# Altium footprint library HGH.PcbLib: 336 footprints (part 9 of 21)
Each footprint in its own frame and in the unit in brackets; x right, y up, seen from the top. Pads: shape width x height; smd on the part's side, far side on the other; paste and mask are expansions set on the pad; w line width, h text height; cw(c..) or ccw(c..) is an arc to the next point about the centre after c.
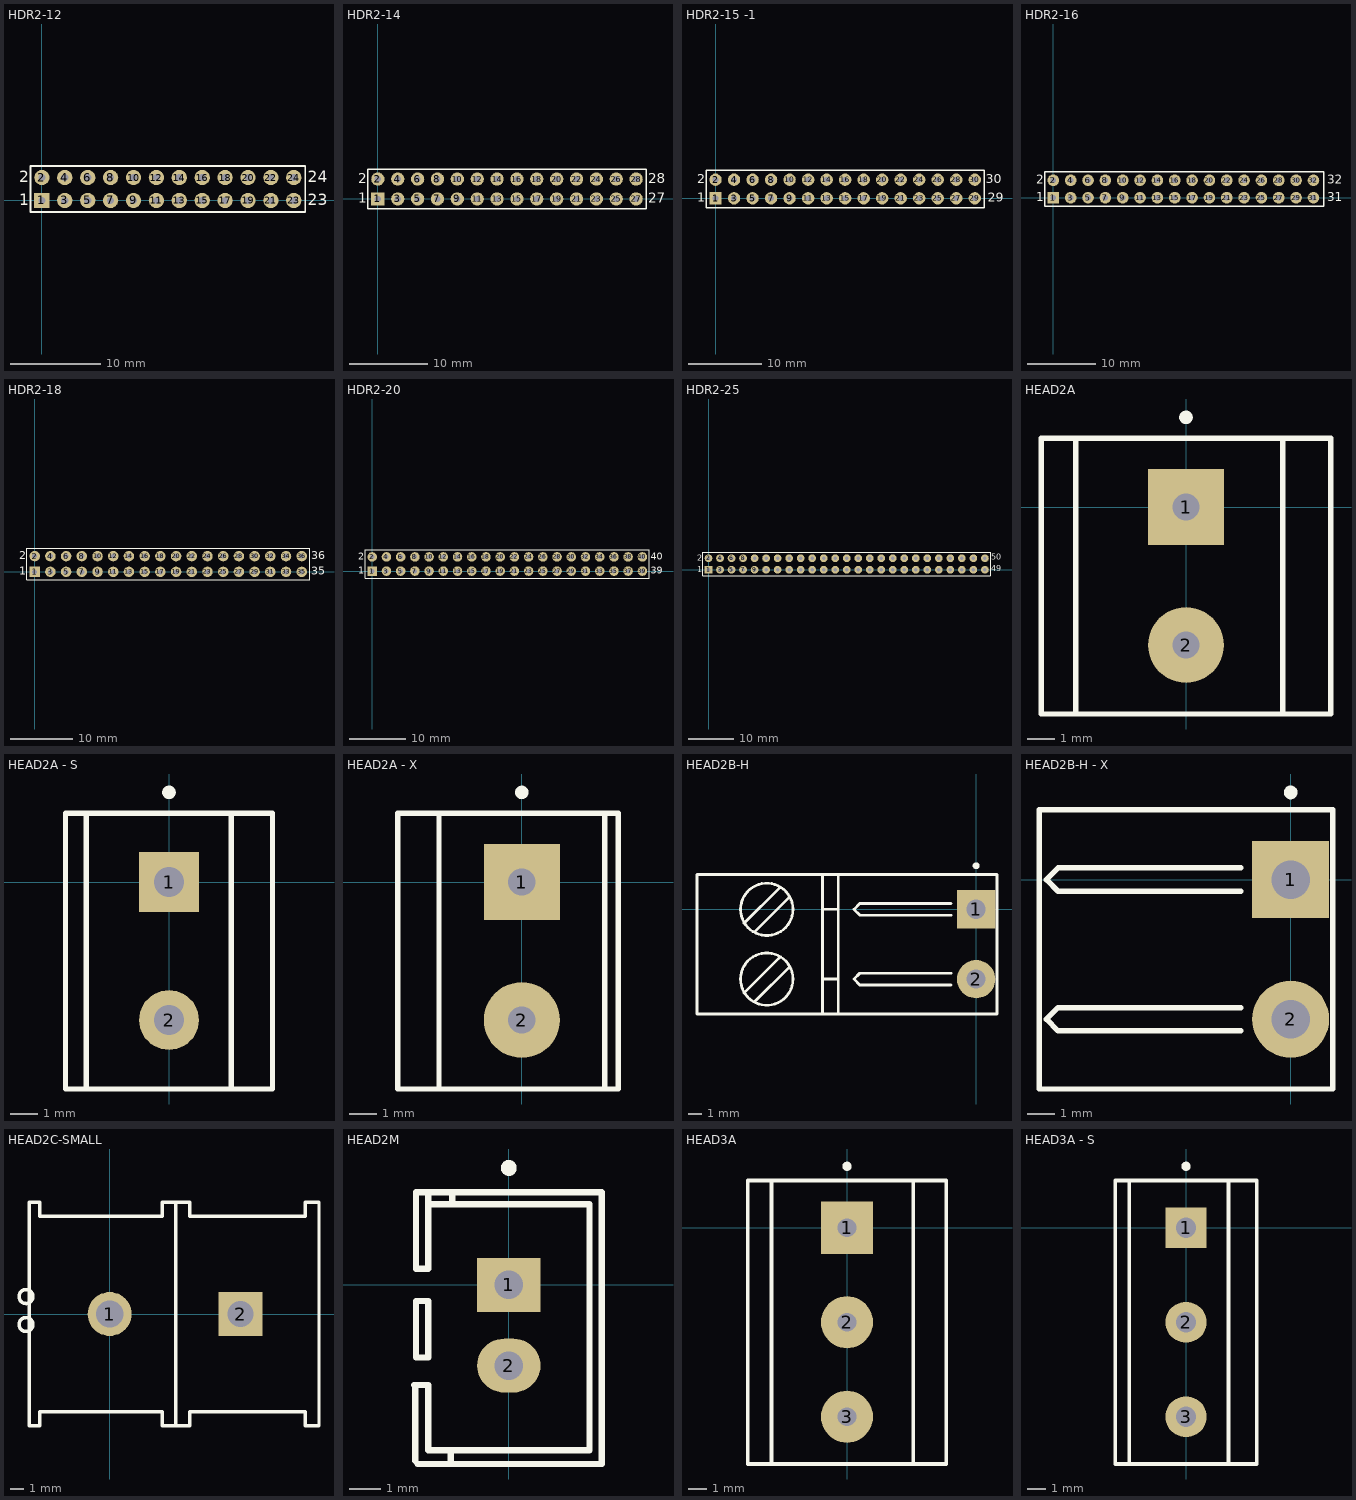
[diagram p8: the footprints below, top view; thin cyan lines are the x and y axes]

## HDR2-12 [mm]
pads (24):
  rect 1.7x1.7 hole 0.8: 1(0,0)
  round 1.7 hole 0.8: 2(0,2.54) 3(2.54,0) 4(2.54,2.54) 5(5.08,0) 6(5.08,2.54) 7(7.62,0) 8(7.62,2.54) 9(10.16,0) 10(10.16,2.54) 11(12.7,0) 12(12.7,2.54) 13(15.24,0) 14(15.24,2.54) 15(17.78,0) 16(17.78,2.54) 17(20.32,0) 18(20.32,2.54) 19(22.86,0) 20(22.86,2.54) 21(25.4,0) 22(25.4,2.54) 23(27.94,0) 24(27.94,2.54)
Top Overlay:
  lines w0.2: -1.27,-1.27 0.635,-1.27 29.21,-1.27 29.21,3.81 0.635,3.81 -1.27,3.81 -1.27,-1.27
  text "1" at -2.54,-0.508 h1.27
  text "2" at -2.54,2.032 h1.27
  text "24" at 29.464,2.032 h1.27
  text "23" at 29.464,-0.508 h1.27

## HDR2-14 [mm]
pads (28):
  rect 1.7x1.7 hole 0.8: 1(0,0)
  round 1.7 hole 0.8: 2(0,2.54) 3(2.54,0) 4(2.54,2.54) 5(5.08,0) 6(5.08,2.54) 7(7.62,0) 8(7.62,2.54) 9(10.16,0) 10(10.16,2.54) 11(12.7,0) 12(12.7,2.54) 13(15.24,0) 14(15.24,2.54) 15(17.78,0) 16(17.78,2.54) 17(20.32,0) 18(20.32,2.54) 19(22.86,0) 20(22.86,2.54) 21(25.4,0) 22(25.4,2.54) 23(27.94,0) 24(27.94,2.54) 25(30.48,0) 26(30.48,2.54) 27(33.02,0) 28(33.02,2.54)
Top Overlay:
  lines w0.2: -1.27,-1.27 -1.27,3.81 0.635,3.81 34.29,3.81 34.29,-1.27 0.635,-1.27 -1.27,-1.27
  text "2" at -2.54,2.032 h1.27
  text "1" at -2.54,-0.508 h1.27
  text "27" at 34.544,-0.508 h1.27
  text "28" at 34.544,2.032 h1.27

## HDR2-15 -1 [mm]
pads (30):
  rect 1.7x1.7 hole 0.8: 1(0,0)
  round 1.7 hole 0.8: 2(0,2.54) 3(2.54,0) 4(2.54,2.54) 5(5.08,0) 6(5.08,2.54) 7(7.62,0) 8(7.62,2.54) 9(10.16,0) 10(10.16,2.54) 11(12.7,0) 12(12.7,2.54) 13(15.24,0) 14(15.24,2.54) 15(17.78,0) 16(17.78,2.54) 17(20.32,0) 18(20.32,2.54) 19(22.86,0) 20(22.86,2.54) 21(25.4,0) 22(25.4,2.54) 23(27.94,0) 24(27.94,2.54) 25(30.48,0) 26(30.48,2.54) 27(33.02,0) 28(33.02,2.54) 29(35.56,0) 30(35.56,2.54)
Top Overlay:
  lines w0.2: -1.27,-1.27 0.635,-1.27 36.83,-1.27 36.83,3.81 0.635,3.81 -1.27,3.81 -1.27,-1.27
  text "30" at 37.084,2.032 h1.27
  text "29" at 37.338,-0.508 h1.27
  text "1" at -2.54,-0.508 h1.27
  text "2" at -2.54,2.032 h1.27

## HDR2-16 [mm]
pads (32):
  rect 1.7x1.7 hole 0.8: 1(0,0)
  round 1.7 hole 0.8: 2(0,2.54) 3(2.54,0) 4(2.54,2.54) 5(5.08,0) 6(5.08,2.54) 7(7.62,0) 8(7.62,2.54) 9(10.16,0) 10(10.16,2.54) 11(12.7,0) 12(12.7,2.54) 13(15.24,0) 14(15.24,2.54) 15(17.78,0) 16(17.78,2.54) 17(20.32,0) 18(20.32,2.54) 19(22.86,0) 20(22.86,2.54) 21(25.4,0) 22(25.4,2.54) 23(27.94,0) 24(27.94,2.54) 25(30.48,0) 26(30.48,2.54) 27(33.02,0) 28(33.02,2.54) 29(35.56,0) 30(35.56,2.54) 31(38.1,0) 32(38.1,2.54)
Top Overlay:
  lines w0.2: -1.27,-1.27 0.635,-1.27 39.624,-1.27 39.624,3.81 0.635,3.81 -1.27,3.81 -1.27,-1.27
  text "1" at -2.54,-0.508 h1.27
  text "2" at -2.54,2.032 h1.27
  text "32" at 40.132,2.032 h1.27
  text "31" at 40.132,-0.508 h1.27

## HDR2-18 [mm]
pads (36):
  rect 1.7x1.7 hole 0.8: 1(0,0)
  round 1.7 hole 0.8: 2(0,2.54) 3(2.54,0) 4(2.54,2.54) 5(5.08,0) 6(5.08,2.54) 7(7.62,0) 8(7.62,2.54) 9(10.16,0) 10(10.16,2.54) 11(12.7,0) 12(12.7,2.54) 13(15.24,0) 14(15.24,2.54) 15(17.78,0) 16(17.78,2.54) 17(20.32,0) 18(20.32,2.54) 19(22.86,0) 20(22.86,2.54) 21(25.4,0) 22(25.4,2.54) 23(27.94,0) 24(27.94,2.54) 25(30.48,0) 26(30.48,2.54) 27(33.02,0) 28(33.02,2.54) 29(35.56,0) 30(35.56,2.54) 31(38.1,0) 32(38.1,2.54) 33(40.64,0) 34(40.64,2.54) 35(43.18,0) 36(43.18,2.54)
Top Overlay:
  lines w0.2: -1.27,-1.27 0.635,-1.27 44.45,-1.27 44.45,3.81 0.635,3.81 -1.27,3.81 -1.27,-1.27
  text "1" at -2.54,-0.508 h1.27
  text "2" at -2.54,2.032 h1.27
  text "36" at 44.704,2.032 h1.27
  text "35" at 44.704,-0.508 h1.27

## HDR2-20 [mm]
pads (40):
  rect 1.7x1.7 hole 0.8: 1(0,0)
  round 1.7 hole 0.8: 2(0,2.54) 3(2.54,0) 4(2.54,2.54) 5(5.08,0) 6(5.08,2.54) 7(7.62,0) 8(7.62,2.54) 9(10.16,0) 10(10.16,2.54) 11(12.7,0) 12(12.7,2.54) 13(15.24,0) 14(15.24,2.54) 15(17.78,0) 16(17.78,2.54) 17(20.32,0) 18(20.32,2.54) 19(22.86,0) 20(22.86,2.54) 21(25.4,0) 22(25.4,2.54) 23(27.94,0) 24(27.94,2.54) 25(30.48,0) 26(30.48,2.54) 27(33.02,0) 28(33.02,2.54) 29(35.56,0) 30(35.56,2.54) 31(38.1,0) 32(38.1,2.54) 33(40.64,0) 34(40.64,2.54) 35(43.18,0) 36(43.18,2.54) 37(45.72,0) 38(45.72,2.54) 39(48.26,0) 40(48.26,2.54)
Top Overlay:
  lines w0.2: -1.27,-1.27 -1.27,3.81 0.635,3.81 49.53,3.81 49.53,-1.27 0.635,-1.27 -1.27,-1.27
  text "2" at -2.54,2.032 h1.27
  text "1" at -2.54,-0.508 h1.27
  text "39" at 49.784,-0.508 h1.27
  text "40" at 49.784,2.032 h1.27

## HDR2-25 [mm]
pads (50):
  rect 1.7x1.7 hole 0.8: 1(0,0)
  round 1.7 hole 0.8: 2(0,2.54) 3(2.54,0) 4(2.54,2.54) 5(5.08,0) 6(5.08,2.54) 7(7.62,0) 8(7.62,2.54) 9(10.16,0) 10(10.16,2.54) 11(12.7,0) 12(12.7,2.54) 13(15.24,0) 14(15.24,2.54) 15(17.78,0) 16(17.78,2.54) 17(20.32,0) 18(20.32,2.54) 19(22.86,0) 20(22.86,2.54) 21(25.4,0) 22(25.4,2.54) 23(27.94,0) 24(27.94,2.54) 25(30.48,0) 26(30.48,2.54) 27(33.02,0) 28(33.02,2.54) 29(35.56,0) 30(35.56,2.54) 31(38.1,0) 32(38.1,2.54) 33(40.64,0) 34(40.64,2.54) 35(43.18,0) 36(43.18,2.54) 37(45.72,0) 38(45.72,2.54) 39(48.26,0) 40(48.26,2.54) 41(50.8,0) 42(50.8,2.54) 43(53.34,0) 44(53.34,2.54) 45(55.88,0) 46(55.88,2.54) 47(58.42,0) 48(58.42,2.54) 49(60.96,0) 50(60.96,2.54)
Top Overlay:
  lines w0.2: 62.103,-1.27 0.635,-1.27 -1.27,-1.27 -1.27,3.81 0.635,3.81 62.23,3.81 62.23,-1.27
  text "1" at -2.54,-0.508 h1.27
  text "2" at -2.54,2.032 h1.27
  text "50" at 62.357,2.159 h1.27
  text "49" at 62.357,-0.381 h1.27

## HEAD2A [mm]
pads (2):
  rect 2.8x2.8 hole 1: 1(0,0)
  round 2.8 hole 1: 2(0,-5.08)
Top Overlay:
  circle w0.25: c0,3.3 r0.125
  lines w0.2: -4.064,-7.62 -4.064,2.54 ; 3.556,-7.62 3.556,2.54 ; -5.334,-7.62 -5.334,2.54 5.334,2.54 5.334,-7.62 -5.334,-7.62

## HEAD2A - S [mm]
pads (2):
  rect 2.2x2.2 hole 1.1: 1(0,0)
  round 2.2 hole 1.1: 2(0,-5.08)
Top Overlay:
  circle w0.25: c0,3.3 r0.125
  lines w0.2: -3.048,-7.62 -3.048,2.54 ; 2.286,-7.62 2.286,2.54 ; -3.81,-7.62 3.81,-7.62 3.81,2.54 -3.81,2.54 -3.81,-7.62

## HEAD2A - X [mm]
pads (2):
  rect 2.8x2.8 hole 1: 1(0,0)
  round 2.8 hole 1: 2(0,-5.08)
Top Overlay:
  circle w0.25: c0,3.3 r0.125
  lines w0.2: -3.048,-7.62 -3.048,2.54 ; 3.048,-7.62 3.048,2.54 ; -4.572,-7.62 3.556,-7.62 3.556,2.54 -4.572,2.54 -4.572,-7.62

## HEAD2B-H [mm]
pads (2):
  rect 2.8x2.8 hole 1.4: 1(0,0)
  round 2.8 hole 1.4: 2(0,-5.08)
Top Overlay:
  circle w0.25: c0,3.173 r0.125
  circle w0.2: c-15.24,-5.08 r1.905
  circle w0.2: c-15.24,0 r1.905
  lines w0.2: -16.891,-6.096 -14.351,-3.556 ; -16.891,-1.016 -14.351,1.524 ; -16.129,-6.731 -13.589,-4.191 ; -16.129,-1.651 -13.589,0.889 ; -11.176,-5.08 -10.033,-5.08 ; -11.176,0 -10.033,0 ; -10.033,-7.62 -10.033,2.54 ; -1.82,-5.503 -8.467,-5.503 -8.89,-5.08 -8.467,-4.657 -1.82,-4.657 ; -1.82,-0.423 -8.467,-0.423 -8.89,0 -8.467,0.423 -1.82,0.423 ; -11.176,-7.62 -11.176,2.54 ; -11.176,-7.62 1.524,-7.62 1.524,2.54 -11.176,2.54 ; -11.176,-7.62 -20.32,-7.62 -20.32,2.54 -11.176,2.54

## HEAD2B-H - X [mm]
pads (2):
  rect 2.8x2.8 hole 1.4: 1(0,0)
  round 2.8 hole 1.4: 2(0,-5.08)
Top Overlay:
  circle w0.25: c0,3.173 r0.125
  lines w0.2: -1.82,-5.503 -8.467,-5.503 -8.89,-5.08 -8.467,-4.657 -1.82,-4.657 ; -1.82,-0.423 -8.467,-0.423 -8.89,0 -8.467,0.423 -1.82,0.423 ; -9.144,-7.62 -9.144,2.54 1.524,2.54 1.524,-7.62 -9.144,-7.62

## HEAD2C-SMALL [mm]
pads (2):
  round 3.2 hole 2: 1(0,0)
  rect 3.2x3.2 hole 1.9: 2(9.525,0)
Top Overlay:
  circle w0.254: c-6.096,1.27 r0.508
  circle w0.254: c-6.096,-0.762 r0.508
  lines w0.254: 4.064,-8.128 5.842,-8.128 5.842,-7.112 14.224,-7.112 14.224,-8.128 15.24,-8.128 15.24,8.128 14.224,8.128 14.224,7.112 5.842,7.112 5.842,8.128 3.81,8.128 3.81,7.112 -5.08,7.112 -5.08,8.128 -5.842,8.128 -5.842,-8.128 -5.08,-8.128 -5.08,-7.112 3.81,-7.112 3.81,-8.128 4.318,-8.128 ; 4.826,-8.128 4.826,8.128

## HEAD2M [mm]
pads (2):
  rect 2x1.7 hole 0.9: 1(0,0)
  oval 2x1.7 hole 0.9: 2(0,-2.54)
Top Overlay:
  circle w0.25: c0,3.681 r0.125
  lines w0.2: -2.972,-3.15 -2.54,-3.15 -2.54,-5.207 2.54,-5.207 2.54,2.54 -2.54,2.54 ; -2.946,-5.537 -2.946,-3.175 ; -2.87,-5.639 2.921,-5.639 2.921,2.921 -2.921,2.921 -2.921,0.508 -2.54,0.508 -2.54,2.54 ; -2.54,2.794 -2.54,2.54 ; -1.829,-5.639 -1.829,-5.207 ; -1.778,2.54 -1.778,2.921 ; -2.921,-2.286 -2.54,-2.286 -2.54,-0.508 -2.921,-0.508 -2.921,-2.286

## HEAD3A [mm]
pads (3):
  rect 2.8x2.8 hole 1: 1(0,0)
  round 2.8 hole 1: 2(0,-5.08) 3(0,-10.16)
Top Overlay:
  circle w0.25: c0,3.3 r0.125
  lines w0.2: -4.064,-12.7 -4.064,2.54 ; 3.556,-12.7 3.556,2.54 ; -5.334,-12.7 -5.334,2.54 5.334,2.54 5.334,-12.7 -5.334,-12.7

## HEAD3A - S [mm]
pads (3):
  rect 2.2x2.2 hole 1.1: 1(0,0)
  round 2.2 hole 1.1: 2(0,-5.08) 3(0,-10.16)
Top Overlay:
  circle w0.25: c0,3.3 r0.125
  lines w0.2: -3.048,-12.7 -3.048,2.54 ; 2.286,-12.7 2.286,2.54 ; -3.81,-12.7 3.81,-12.7 3.81,2.54 -3.81,2.54 -3.81,-12.7